# Altium footprint library FA-23816P0000MB-C3.PcbLib: 1 footprints
Each footprint in its own frame and in the unit in brackets; x right, y up, seen from the top. Pads: shape width x height; smd on the part's side, far side on the other; paste and mask are expansions set on the pad; w line width, h text height; cw(c..) or ccw(c..) is an arc to the next point about the centre after c.
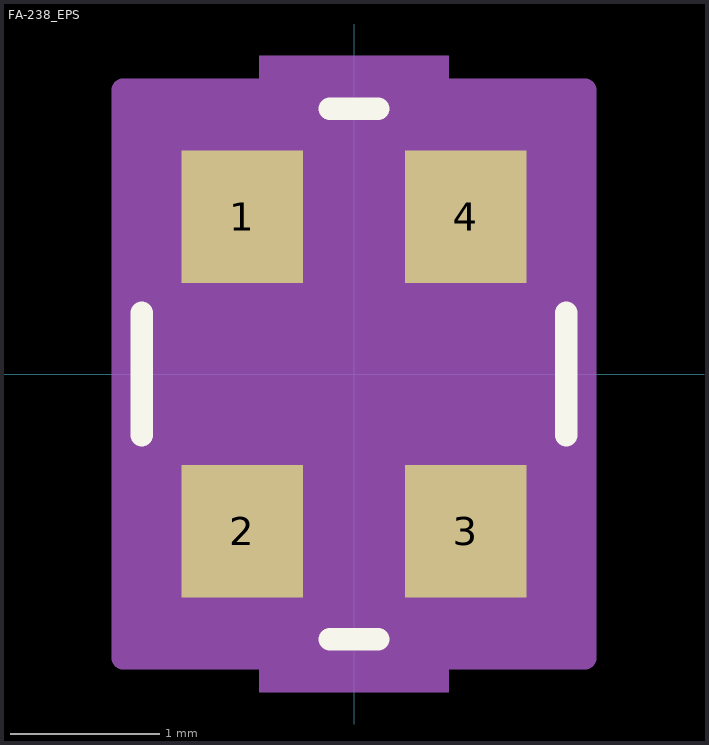
[diagram p0: the footprint, top view; thin cyan lines are the x and y axes]

## FA-238_EPS [mil]
pads (4):
  rect 32x35 smd paste+0 mask+0: 1(-29.5,41.5) 2(-29.5,-41.5) 3(29.5,-41.5) 4(29.5,41.5)
Top Overlay:
  lines w6: -56,-16.17 -56,16.17 ; -6.39,-70 6.39,-70 ; -6.39,70 6.39,70 ; 56,-16.17 56,16.17
Mechanical 5:
  region: 25,-84 -25,-84 -25,84 25,84
Mechanical 13:
  lines w1: -51,15 -1,65 ; -51,-65 51,-65 51,65 -51,65 -51,-65 ; -45.5,-65 -13.5,-65 -13.5,-59 -45.5,-59 -45.5,-65 ; -45.5,59 -13.5,59 -13.5,65 -45.5,65 -45.5,59 ; 13.5,-65 45.5,-65 45.5,-59 13.5,-59 13.5,-65 ; 13.5,59 45.5,59 45.5,65 13.5,65 13.5,59
Mechanical 15:
  region: -55.5,-75 -61,-75 -61,3.5 -61,-3.5 -61,75 -55.5,75 55.5,75 61,75 61,-3.5 61,3.5 61,-75 55.5,-75
  lines w6: -61,-75 -61,3.5 -61,-3.5 -61,75 -55.5,75 55.5,75 61,75 61,-3.5 61,3.5 61,-75 55.5,-75 -55.5,-75 -61,-75
3D body: height 10, standoff 0, extent 0,0 10,10
3D body "Crystal.STEP": height 27.95, standoff 0, extent -49.22,-62.99 49.21,63